# EAGLE library part 615008145221 (library Eagle_WR-MJ (rev23b))
WR-MJ Modular Jack 45° Entry Shielded 8P8C Standard & Reverse Metal Post Trail Material Properties Insulator Material PBT Insulator Flammability Rating UL94 V-0 Insulator Color Black Contact Material Copper Alloy Contact Plating Selective Gold Contact Type Stamped Shielding Material Bronze Shielding Plating Nickel (Ni) General Information Operating Temperature -40 up to +85 °C Electrical Properties Working Voltage 120 V (AC) Withstanding Voltage 1000 V (AC) Contact Resistance 20 mΩ RISO 500 MΩ Packaging Properties Packaging Tray <https://www.we-online.com/components/media/o33136v209%20Family_WR-MJ_615008145x21.jpg> Details see: www.we-online.com/components/products/MJ_45-DEGREE_ENTRY_SHIELDED_8P8C_STANDARD_REVERSE_METAL_POST_TAIL_615008145X21 <www.we-online.com/catalog/MJ_45-DEGREE_ENTRY_SHIELDED_8P8C_STANDARD_REVERSE_METAL_POST_TAIL_615008145X21/?utm_source=eagle_model&utm_medium=description_link&utm_campaign=eisos_eagle> Updated by Ella Wu 2023-06-27 2023 (C) Würth Elektronik
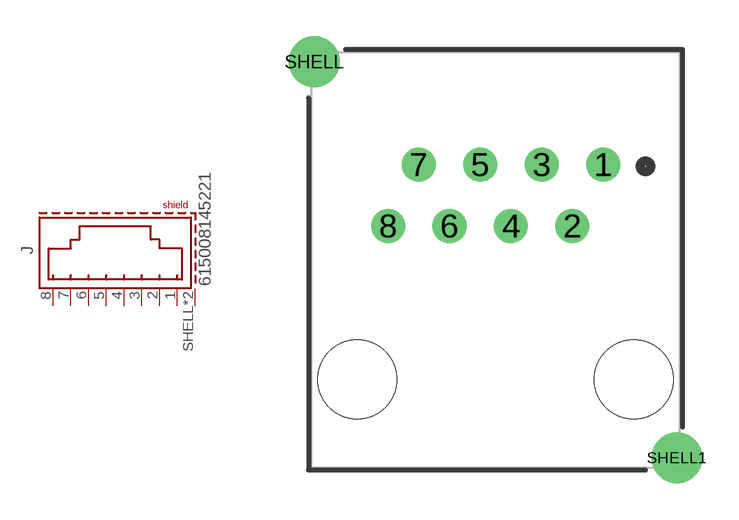
[diagram p57: symbol with the pads of 615008145221; footprint 615008145221]

Designator prefix J

## 615008145221 (DATASHEET-URL: https://www.we-online.com/redexpert/spec/615008145221?ae; LED: /; MOUNT: THT; PART-NUMBER: 615008145221; TYPE: 45°; VALUE: 615008145221; XPXC: 8P8C)  [615008145221]
1  1  pas
2  2  pas
3  3  pas
4  4  pas
5  5  pas
6  6  pas
7  7  pas
8  8  pas
SHELL  SHIELD  pas
SHELL1  SHIELD  pas

## Footprint 615008145221 (pad centres in mm)
WR-MJ Modular Jack 45° Entry Shielded 8P8C Standard & Reverse Metal Post Trail, 8 pins
drill 0.9: 1 4.445,3.94; 2 3.175,1.4; 3 1.905,3.94; 4 0.635,1.4; 5 -0.635,3.94; 6 -1.905,1.4; 7 -3.175,3.94; 8 -4.445,1.4
drill 1.4: SHELL -7.5,8.2; SHELL1 7.5,-8.2
hole 3.25 at -5.715,-4.95
hole 3.25 at 5.715,-4.95